# Altium footprint library ga2o3_temp_cb.PcbLib: 1 footprints
Each footprint in its own frame and in the unit in brackets; x right, y up, seen from the top. Pads: shape width x height; smd on the part's side, far side on the other; paste and mask are expansions set on the pad; w line width, h text height; cw(c..) or ccw(c..) is an arc to the next point about the centre after c.
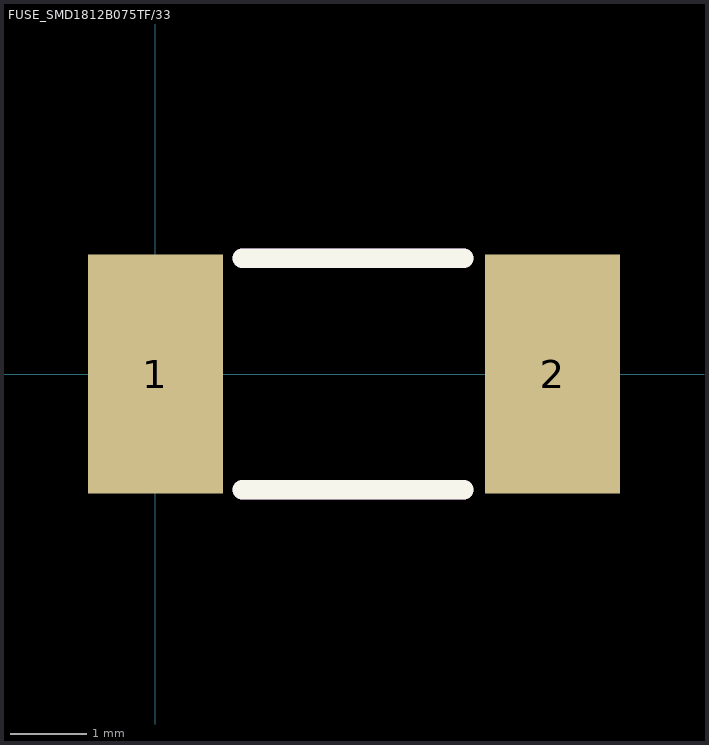
[diagram p0: the footprint, top view; thin cyan lines are the x and y axes]

## FUSE_SMD1812B075TF/33 [mm]
pads (2):
  rect 1.78x3.15 smd: 1(0,0) 2(5.23,0)
Top Overlay:
  lines w0.254: 1.143,-1.524 4.064,-1.524 ; 1.143,1.524 4.064,1.524
Top Assembly:
  lines w0.254: 1.143,-1.524 4.064,-1.524 ; 1.143,1.524 4.064,1.524
  text ".Designator" at 1.524,-0.508 h1.52